# EAGLE library part MCP1501 (library Power > Voltage References)
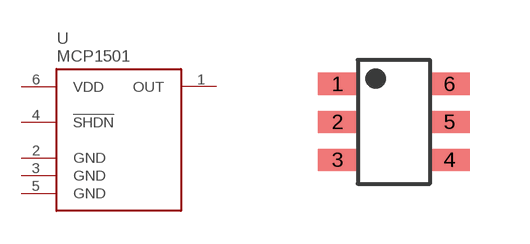
[diagram p0: symbol with the pads of SOT23-6; footprint SOT23-6]

Designator prefix U

## MCP1501  [SOT23-6]
1  OUT
2  GND
3  GND
4  !SHDN
5  GND
6  VDD

## Footprint SOT23-6 (pad centres in mm)
smd 1 x 0.55: 1 -1.4,0.95; 2 -1.4,0; 3 -1.4,-0.95; 4 1.4,-0.95; 5 1.4,0; 6 1.4,0.95